# Altium footprint library FUSE_3588TR.PcbLib: 1 footprints
Each footprint in its own frame and in the unit in brackets; x right, y up, seen from the top. Pads: shape width x height; smd on the part's side, far side on the other; paste and mask are expansions set on the pad; w line width, h text height; cw(c..) or ccw(c..) is an arc to the next point about the centre after c.
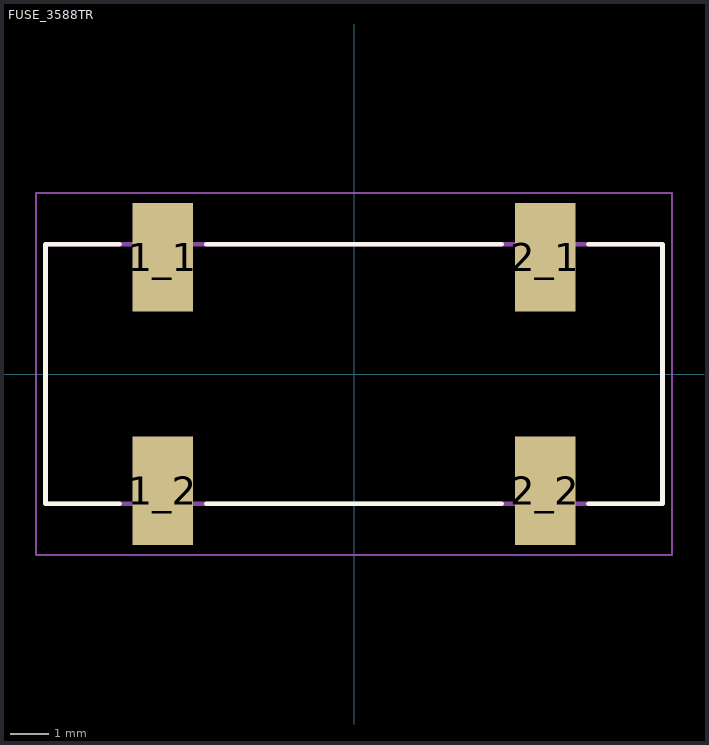
[diagram p0: the footprint, top view; thin cyan lines are the x and y axes]

## FUSE_3588TR [mm]
height 8.12
pads (4):
  rect 1.57x2.82 smd: 1_1(-4.96,3.03) 1_2(-4.96,-3.03) 2_1(4.96,3.03) 2_2(4.96,-3.03)
Top Overlay:
  lines w0.127: -6.08,-3.365 -8,-3.365 -8,3.365 -6.08,3.365 ; -3.83,-3.365 3.83,-3.365 ; -3.83,3.365 3.83,3.365 ; 6.08,-3.365 8,-3.365 8,3.365 6.08,3.365
Assembly Top:
  lines w0.127: -8,-3.365 8,-3.365 8,3.365 -8,3.365 -8,-3.365
Courtyard Top:
  lines w0.05: -8.25,-4.69 8.25,-4.69 8.25,4.69 -8.25,4.69 -8.25,-4.69
3D body "step_temp.STEP": height 7.86, standoff -0.02, extent -7.906,-4.004 8.096,4.752